# EAGLE library part XCF01SVOG20C (library Xilinx_By_element14_Batch_1)
Platform Flash In-System Programmable Configuration PROMS
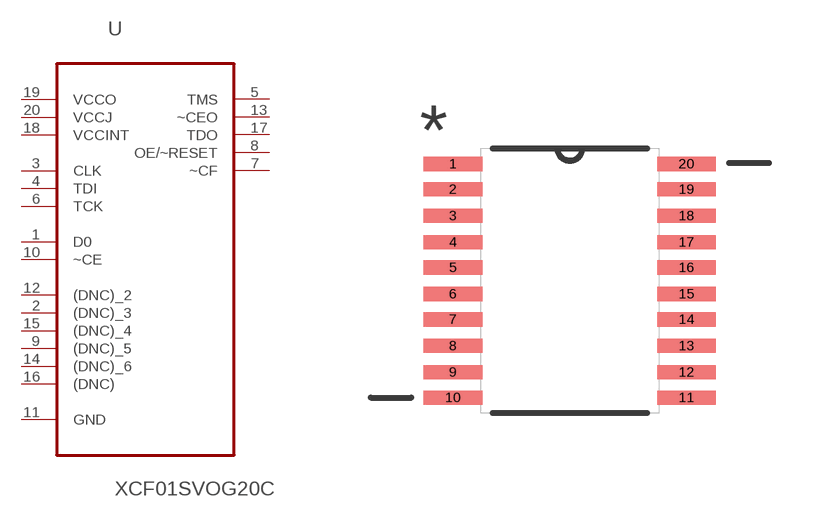
[diagram p0: symbol with the pads of SOP65P640X119-20N; footprint SOP65P640X119-20N]

Designator prefix U

## XCF01SVOG20C (MPN: XCF01SVOG20C; OC_FARNELL: 1876177; OC_NEWARK: 40T2690; PACKAGE: TSSOP-20; SUPPLIER: XILINX)  [SOP65P640X119-20N]
1  D0  in
2  (DNC)_3  nc
3  CLK  in
4  TDI  in
5  TMS  in
6  TCK  in
7  ~CF
8  OE/~RESET
9  (DNC)_5  nc
10  ~CE  in
11  GND  pas
12  (DNC)_2  nc
13  ~CEO  out
14  (DNC)_6  nc
15  (DNC)_4  nc
16  (DNC)  nc
17  TDO  out
18  VCCINT  pwr
19  VCCO  pwr
20  VCCJ  pwr

## Footprint SOP65P640X119-20N (pad centres in mm)
smd 1.473 x 0.356: 1 -2.921,2.921; 2 -2.921,2.286; 3 -2.921,1.626; 4 -2.921,0.965; 5 -2.921,0.33; 6 -2.921,-0.33; 7 -2.921,-0.965; 8 -2.921,-1.626; 9 -2.921,-2.286; 10 -2.921,-2.921; 11 2.921,-2.921; 12 2.921,-2.286; 13 2.921,-1.626; 14 2.921,-0.965; 15 2.921,-0.33; 16 2.921,0.33; 17 2.921,0.965; 18 2.921,1.626; 19 2.921,2.286; 20 2.921,2.921